# Altium footprint library WENSHIDU.PcbLib: 18 footprints (part 2 of 2)
Each footprint in its own frame and in the unit in brackets; x right, y up, seen from the top. Pads: shape width x height; smd on the part's side, far side on the other; paste and mask are expansions set on the pad; w line width, h text height; cw(c..) or ccw(c..) is an arc to the next point about the centre after c.
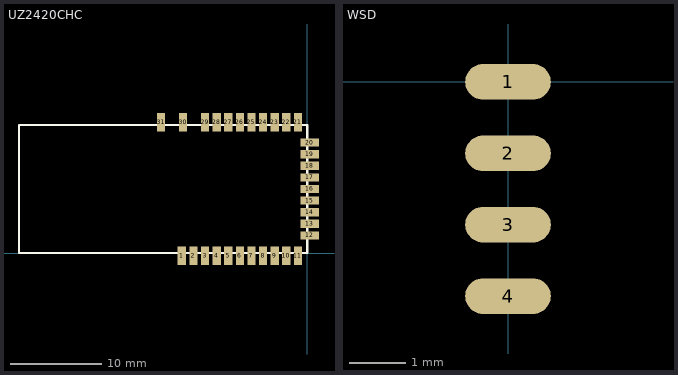
[diagram p1: the footprints below, top view; thin cyan lines are the x and y axes]

## UZ2420CHC [mm]
pads (31):
  rect 0.9x2 smd: 1(-13.7,-0.3) 2(-12.43,-0.3) 3(-11.16,-0.3) 4(-9.89,-0.3) 5(-8.62,-0.3) 6(-7.35,-0.3) 7(-6.08,-0.3) 8(-4.81,-0.3) 9(-3.54,-0.3) 10(-2.27,-0.3) 11(-1,-0.3) 21(-1,14.3) 22(-2.27,14.3) 23(-3.54,14.3) 24(-4.81,14.3) 25(-6.08,14.3) 26(-7.35,14.3) 27(-8.62,14.3) 28(-9.89,14.3) 29(-11.16,14.3) 30(-13.56,14.3) 31(-15.96,14.3)
  rect 2x0.9 smd: 12(0.3,1.92) 13(0.3,3.19) 14(0.3,4.46) 15(0.3,5.73) 16(0.3,7) 17(0.3,8.27) 18(0.3,9.54) 19(0.3,10.81) 20(0.3,12.08)
Top Overlay:
  lines w0.254: -31.5,0 0,0 0,14 -31.5,14 -31.5,0

## WSD [mil]
pads (4):
  oval 60x25 smd: 1(0,0) 2(0,-50) 3(0,-100) 4(0,-150)